# Altium footprint library TEXASINSTRUMENTS_PKG_DGX0019A.PcbLib: 1 footprints
Each footprint in its own frame and in the unit in brackets; x right, y up, seen from the top. Pads: shape width x height; smd on the part's side, far side on the other; paste and mask are expansions set on the pad; w line width, h text height; cw(c..) or ccw(c..) is an arc to the next point about the centre after c.
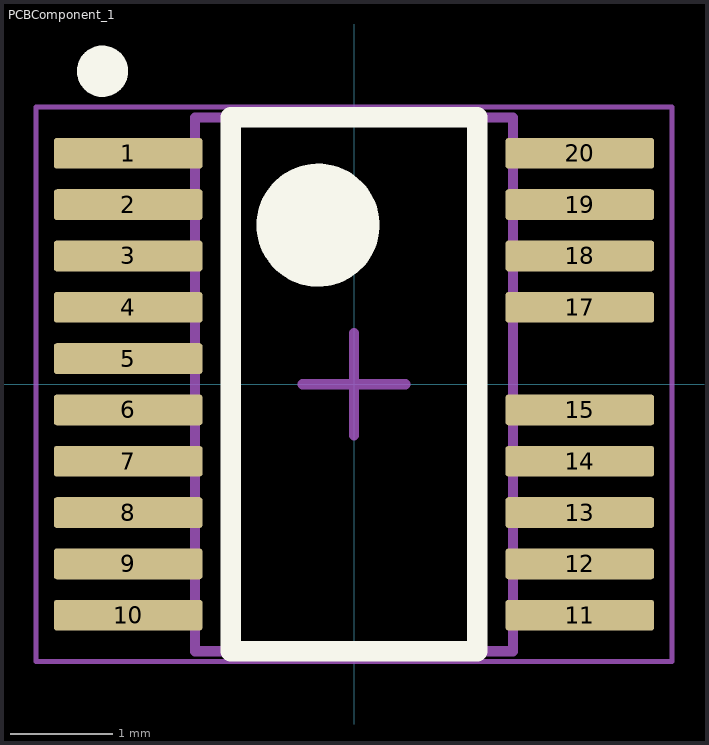
[diagram p0: the footprint, top view; thin cyan lines are the x and y axes]

## PCBComponent_1 [mm]
pads (19):
  rrect20% 1.45x0.3 smd mask+0.05: 1(-2.2,2.25) 2(-2.2,1.75) 3(-2.2,1.25) 4(-2.2,0.75) 5(-2.2,0.25) 6(-2.2,-0.25) 7(-2.2,-0.75) 8(-2.2,-1.25) 9(-2.2,-1.75) 10(-2.2,-2.25) 11(2.2,-2.25) 12(2.2,-1.75) 13(2.2,-1.25) 14(2.2,-0.75) 15(2.2,-0.25) 17(2.2,0.75) 18(2.2,1.25) 19(2.2,1.75) 20(2.2,2.25)
Top Overlay:
  circle w0.25: c-2.45,3.05 r0.125
  circle w0.6: c-0.35,1.55 r0.3
  lines w0.2: -1.2,-2.6 -1.2,2.6 1.2,2.6 1.2,-2.6 -1.2,-2.6
Mechanical 13:
  lines w0.1: -1.55,-2.6 -1.55,2.6 1.55,2.6 1.55,-2.6 -1.55,-2.6
Mechanical 15:
  lines w0.05: -3.1,-2.7 -3.1,2.7 3.1,2.7 3.1,-2.7 -3.1,-2.7
  lines w0.1: -0.5,0 0.5,0 ; 0,-0.5 0,0.5
3D body: height 1.1, standoff 0, extent -1.55,-2.6 1.55,2.6